# Altium integrated library ESDA7P60-1U1M.IntLib: 1 symbol
Pins are listed as number, name and electrical type; pins without a type are passive.

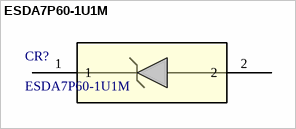
[diagram p0: symbol ESDA7P60-1U1M]

## ESDA7P60-1U1M
designator CR?
60 A - 8/20 us, 5 V TVS in QFN-2L; Manufacturer_Name: STMicroelectronics; Copyright: Copyright (C) 2025 Ultra Librarian. All rights reserved.; Manufacturer_Part_Number: ESDA7P60-1U1M; RefDes: RefDes; Type: Type
footprint ZDO_1610_STM
pins: 1, 2